# Altium footprint library Tes_Bench_Lib_PCB.PcbLib: 20 footprints (part 1 of 2)
Each footprint in its own frame and in the unit in brackets; x right, y up, seen from the top. Pads: shape width x height; smd on the part's side, far side on the other; paste and mask are expansions set on the pad; w line width, h text height; cw(c..) or ccw(c..) is an arc to the next point about the centre after c.
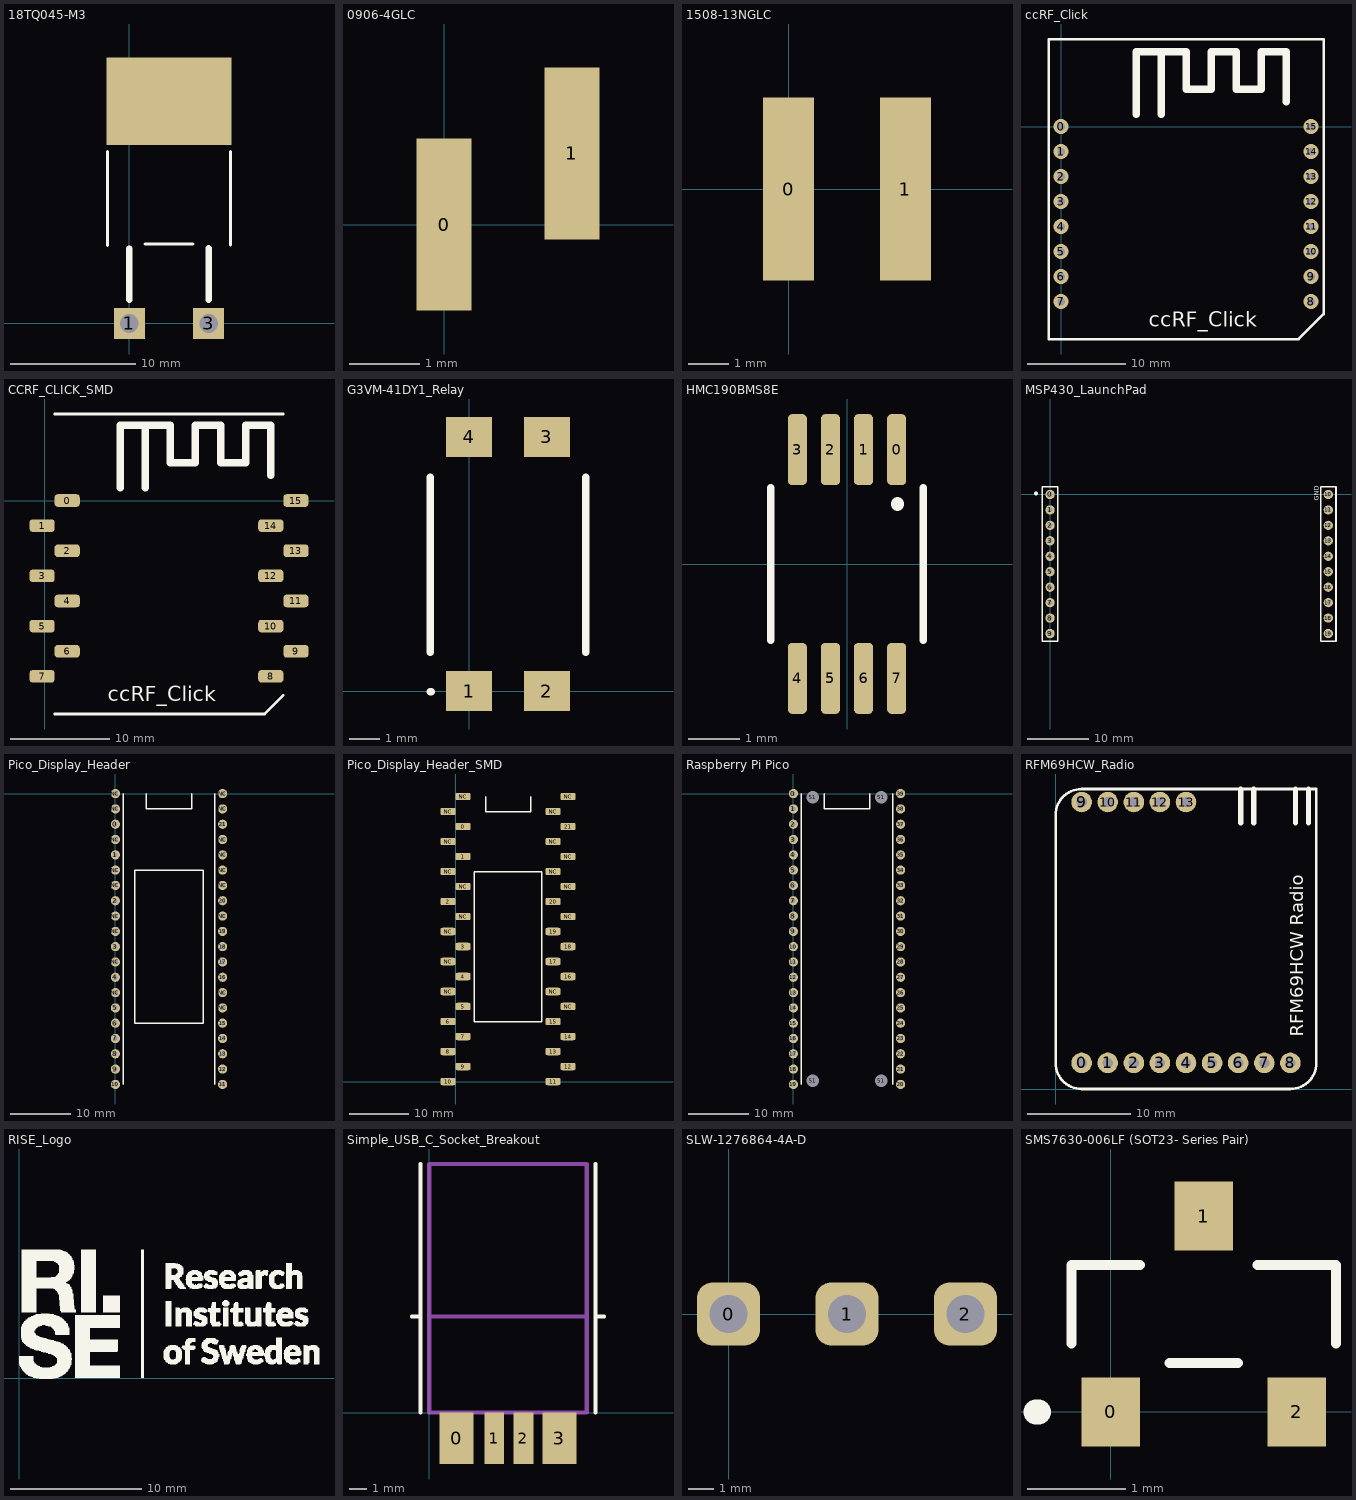
[diagram p0: the footprints below, top view; thin cyan lines are the x and y axes]

## 18TQ045-M3 [mm]
pads (3):
  rect 2.5x2.5 hole 1.5 square: 1(0,0) 3(6.35,0)
  rect 10x7 smd: ""(3.175,17.78)
Top Overlay:
  lines w0.254: -1.75,6.25 -1.75,13.75 ; 1.27,6.35 5.08,6.35 ; 8.1,6.27 8.1,13.77
  lines w0.508: 0,1.905 0,6 ; 6.35,1.905 6.35,6.02

## 0906-4GLC [mm] "RF Inductors - SMD 3.85nH Unshld 5% 1.6A 6mOhms"
pads (2):
  rect 0.79x2.46 smd: 0(0,0) 1(1.83,1.02)

## 1508-13NGLC [mm] "RF Inductors - SMD 13nH Unshld 2% 4A 3.9mOhms AECQ2"
pads (2):
  rect 1.27x4.57 smd: 0(0,0) 1(2.92,0)

## ccRF_Click [mil] "ccRF_Click 2480MHz radio"
pads (16):
  round 60 hole 30: 0(0,0) 1(0,-100) 2(0,-200) 3(0,-300) 4(0,-400) 5(0,-500) 6(0,-600) 7(0,-700) 8(1000,-700) 9(1000,-600) 10(1000,-500) 11(1000,-400) 12(1000,-300) 13(1000,-200) 14(1000,-100) 15(1000,0)
Top Overlay:
  lines w10: -50,-850 -50,350 1050,350 1050,-750 950,-850 -50,-850
  lines w30: 300,50 300,300 400,300 ; 400,50 400,300 ; 900,100 900,300 800,300 800,150 700,150 700,300 600,300 600,150 500,150 500,300 400,300
  text "ccRF_Click" at 350,-800 h60

## CCRF_CLICK_SMD [mm]
pads (16):
  rrect50% 2.54x1.27 smd: 0(2.27,0) 1(-0.27,-2.54) 2(2.27,-5.08) 3(-0.27,-7.62) 4(2.27,-10.16) 5(-0.27,-12.7) 6(2.27,-15.24) 7(-0.27,-17.78) 8(22.86,-17.78) 9(25.4,-15.24) 10(22.86,-12.7) 11(25.4,-10.16) 12(22.86,-7.62) 13(25.4,-5.08) 14(22.86,-2.54) 15(25.4,0)
Top Overlay:
  lines w0.254: 1,-21.59 22.225,-21.59 24.13,-19.685 ; 1,8.75 24.125,8.75
  lines w0.762: 7.62,1.27 7.62,7.62 10.16,7.62 ; 10.16,1.27 10.16,7.62 ; 22.86,2.54 22.86,7.62 20.32,7.62 20.32,3.81 17.78,3.81 17.78,7.62 15.24,7.62 15.24,3.81 12.7,3.81 12.7,7.62 10.16,7.62
  text "ccRF_Click" at 6.35,-20.32 h1.52

## G3VM-41DY1_Relay [mm] "MOS FET Relays Small DIP4 package with High dielectric strength type"
pads (4):
  rect 1.5x1.3 smd: 1(0,0) 2(2.54,0) 3(2.54,8.3) 4(0,8.3)
Top Overlay:
  lines w0.254: -1.27,-0.025 -1.245,-0.025 ; -1.27,1.27 -1.27,6.985 ; 3.81,1.27 3.81,6.985

## HMC190BMS8E [mm] "GaAs MMIC SPDT SWITCH  DC - 3 GHz"
pads (8):
  rrect50% 0.38x1.4 smd: 0(0.975,2.25) 1(0.325,2.25) 2(-0.325,2.25) 3(-0.975,2.25) 4(-0.975,-2.25) 5(-0.325,-2.25) 6(0.325,-2.25) 7(0.975,-2.25)
Top Overlay:
  lines w0.15: -1.5,-1.5 -1.5,1.5 ; 1.5,-1.5 1.5,1.5
  lines w0.254: 0.991,1.168 0.991,1.194

## MSP430_LaunchPad [mil] "MSP430™ LaunchPad™ development kit for value line MCU"
pads (20):
  round 60 hole 30: 0(0,0) 1(0,-100) 2(0,-200) 3(0,-300) 4(0,-400) 5(0,-500) 6(0,-600) 7(0,-700) 8(0,-800) 9(0,-900) 10(1800,0) 11(1800,-100) 12(1800,-200) 13(1800,-300) 14(1800,-400) 15(1800,-500) 16(1800,-600) 17(1800,-700) 18(1800,-800) 19(1800,-900)
Top Overlay:
  lines w10: -50,-950 50,-950 50,50 -50,50 -50,-950 ; 1750,-950 1850,-950 1850,50 1750,50 1750,-950
  lines w25: -91,5 -90,5
  text "GND" at 1740,-40 h30
Bottom Overlay:
  lines w25: -91,5 -90,5

## Pico_Display_Header [mil]
pads (40):
  round 60 hole 30: 0(0,-200) 1(0,-400) 2(0,-700) 3(0,-1000) 4(0,-1200) 5(0,-1400) 6(0,-1500) 7(0,-1600) 8(0,-1700) 9(0,-1800) 10(0,-1900) 11(700,-1900) 12(700,-1800) 13(700,-1700) 14(700,-1600) 15(700,-1500) 16(700,-1200) 17(700,-1100) 18(700,-1000) 19(700,-900) 20(700,-700) 21(700,-200) NC(0,-1300) NC(0,-1100) NC(0,-900) NC(0,-800) NC(0,-600) NC(0,-500) NC(0,-300) NC(0,-100) NC(0,0) NC(700,-1400) NC(700,-1300) NC(700,-800) NC(700,-600) NC(700,-500) NC(700,-400) NC(700,-300) NC(700,-100) NC(700,0)
Top Overlay:
  lines w10: 50,-1900 50,0 ; 200.59,0 200.59,-100 500,-100 500,0 ; 650,-1900 650,0 ; 125,-1500 125,-500 575,-500 575,-1500 125,-1500

## Pico_Display_Header_SMD [mil]
pads (40):
  rrect50% 100x50 smd: 0(50,1700) 1(50,1500) 2(-50,1200) 3(50,900) 4(50,700) 5(50,500) 6(-50,400) 7(50,300) 8(-50,200) 9(50,100) 10(-50,0) 11(650,0) 12(750,100) 13(650,200) 14(750,300) 15(650,400) 16(750,700) 17(650,800) 18(750,900) 19(650,1000) 20(650,1200) 21(750,1700) NC(-50,600) NC(-50,800) NC(-50,1000) NC(-50,1400) NC(-50,1600) NC(-50,1800) NC(50,1100) NC(50,1300) NC(50,1900) NC(650,600) NC(650,1400) NC(650,1600) NC(650,1800) NC(750,500) NC(750,1100) NC(750,1300) NC(750,1500) NC(750,1900)
Top Overlay:
  lines w10: 200.59,1900 200.59,1800 500,1800 500,1900 ; 125,400 125,1400 575,1400 575,400 125,400

## Raspberry Pi Pico [mil]
pads (44):
  round 60 hole 30: 0(0,0) 1(0,-100) 2(0,-200) 3(0,-300) 4(0,-400) 5(0,-500) 6(0,-600) 7(0,-700) 8(0,-800) 9(0,-900) 10(0,-1000) 11(0,-1100) 12(0,-1200) 13(0,-1300) 14(0,-1400) 15(0,-1500) 16(0,-1600) 17(0,-1700) 18(0,-1800) 19(0,-1900) 20(700,-1900) 21(700,-1800) 22(700,-1700) 23(700,-1600) 24(700,-1500) 25(700,-1400) 26(700,-1300) 27(700,-1200) 28(700,-1100) 29(700,-1000) 30(700,-900) 31(700,-800) 32(700,-700) 33(700,-600) 34(700,-500) 35(700,-400) 36(700,-300) 37(700,-200) 38(700,-100) 39(700,0)
  round 60 hole 82.68: 51(125.59,-1875.2) 51(125.59,-24.8) 51(574.41,-1875.2) 51(574.41,-24.8)
Top Overlay:
  lines w10: 50,-1900 50,0 ; 200.59,0 200.59,-100 500,-100 500,0 ; 650,-1900 650,0

## RFM69HCW_Radio [mm] "Adafruit RFM69HCW Transceiver Radio Breakout - 433 MHz - RadioFruit"
pads (14):
  round 2 hole 1: 0(2.54,2.54) 1(5.08,2.54) 2(7.62,2.54) 3(10.16,2.54) 4(12.7,2.54) 5(15.24,2.54) 6(17.78,2.54) 7(20.32,2.54) 8(22.86,2.54) 9(2.54,27.94) 10(5.08,27.94) 11(7.62,27.94) 12(10.16,27.94) 13(12.7,27.94)
Top Overlay:
  lines w0.254: 0,2.54 ccw(c2.54,2.54) 2.54,0 22.86,0 ccw(c22.86,2.54) 25.4,2.54 25.4,29.21 2.54,29.21 ccw(c2.54,26.67) 0,26.67 0,2.54
  lines w0.508: 18.034,25.908 18.034,29.21 ; 19.304,25.908 19.304,29.21 ; 23.368,25.908 23.368,29.21 ; 24.638,25.908 24.638,29.21
  text "RFM69HCW Radio" at 24.13,5.08 h1.27

## RISE_Logo [mil]
Top Overlay:
  drawing of 1798 lines, arcs and shapes, not listed

## Simple_USB_C_Socket_Breakout [mm] "Simple USB C Socket Breakout"
pads (4):
  rect 2x3 smd: 0(1.6,-1.5) 3(7.6,-1.5)
  rect 1.16x3 smd: 1(3.8,-1.5) 2(5.5,-1.5)
Top Overlay:
  lines w0.254: -1,5.6 -0.5,5.6 ; -0.5,0 -0.5,14.5 ; 9.7,0 9.7,14.5 ; 9.7,5.6 10.2,5.6
Mechanical 1:
  lines w0.254: 0,5.6 9.2,5.6 ; 0,0 0,14.5 9.2,14.5 9.2,0 0,0

## SLW-1276864-4A-D [mm] "SLIDE SWITCH"
pads (3):
  rrect50% 2.5x2.5 hole 1.5 square: 0(0,0) 1(4.7,0) 2(9.4,0)

## SMS7630-006LF (SOT23- Series Pair) [mm]
pads (3):
  rect 0.6x0.7 smd: 0(0,0) 1(0.95,2) 2(1.9,0)
Top Overlay:
  lines w0.1: -0.4,0.7 -0.4,1.5 0.3,1.5 ; 0.6,0.5 1.3,0.5 ; 1.5,1.5 2.3,1.5 2.3,0.7
  lines w0.254: -0.762,0 -0.737,0